# Altium integrated library TPD3E001DRLR.IntLib: 1 symbol
Pins are listed as number, name and electrical type; pins without a type are passive.

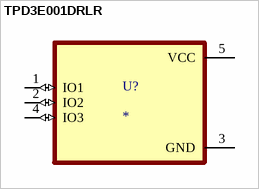
[diagram p0: symbol TPD3E001DRLR]

## TPD3E001DRLR
designator U?
Low-capacitance 3-channel +/-15K-V ESD-protection array for high-speed data interfaces 5-SOT-5X3 -40 to 85; MP: TPD3E001DRLR; MF: Texas Instruments; Package: SOT-5X3-5 Texas Instruments; SnapEDA_Link: https://www.snapeda.com/parts/TPD3E001DRLR/Texas%20Instruments/view-part/382422/?ref=snap; Purchase-URL: https://pricing.snapeda.com/search/part/TPD3E001DRLR/?ref=eda; Digi-Key_Part_Number: 296-21885-1-ND; Value: *; Check_prices: https://www.snapeda.com/parts/TPD3E001DRLR/Texas%20Instruments/view-part/382422/?ref=eda
footprint SOT50P160X60-5N
pins: 1 IO1 (io), 2 IO2 (io), 3 GND (power), 4 IO3 (io), 5 VCC (power)